# Altium footprint library SWG.PcbLib: 26 footprints (part 1 of 2)
Each footprint in its own frame and in the unit in brackets; x right, y up, seen from the top. Pads: shape width x height; smd on the part's side, far side on the other; paste and mask are expansions set on the pad; w line width, h text height; cw(c..) or ccw(c..) is an arc to the next point about the centre after c.
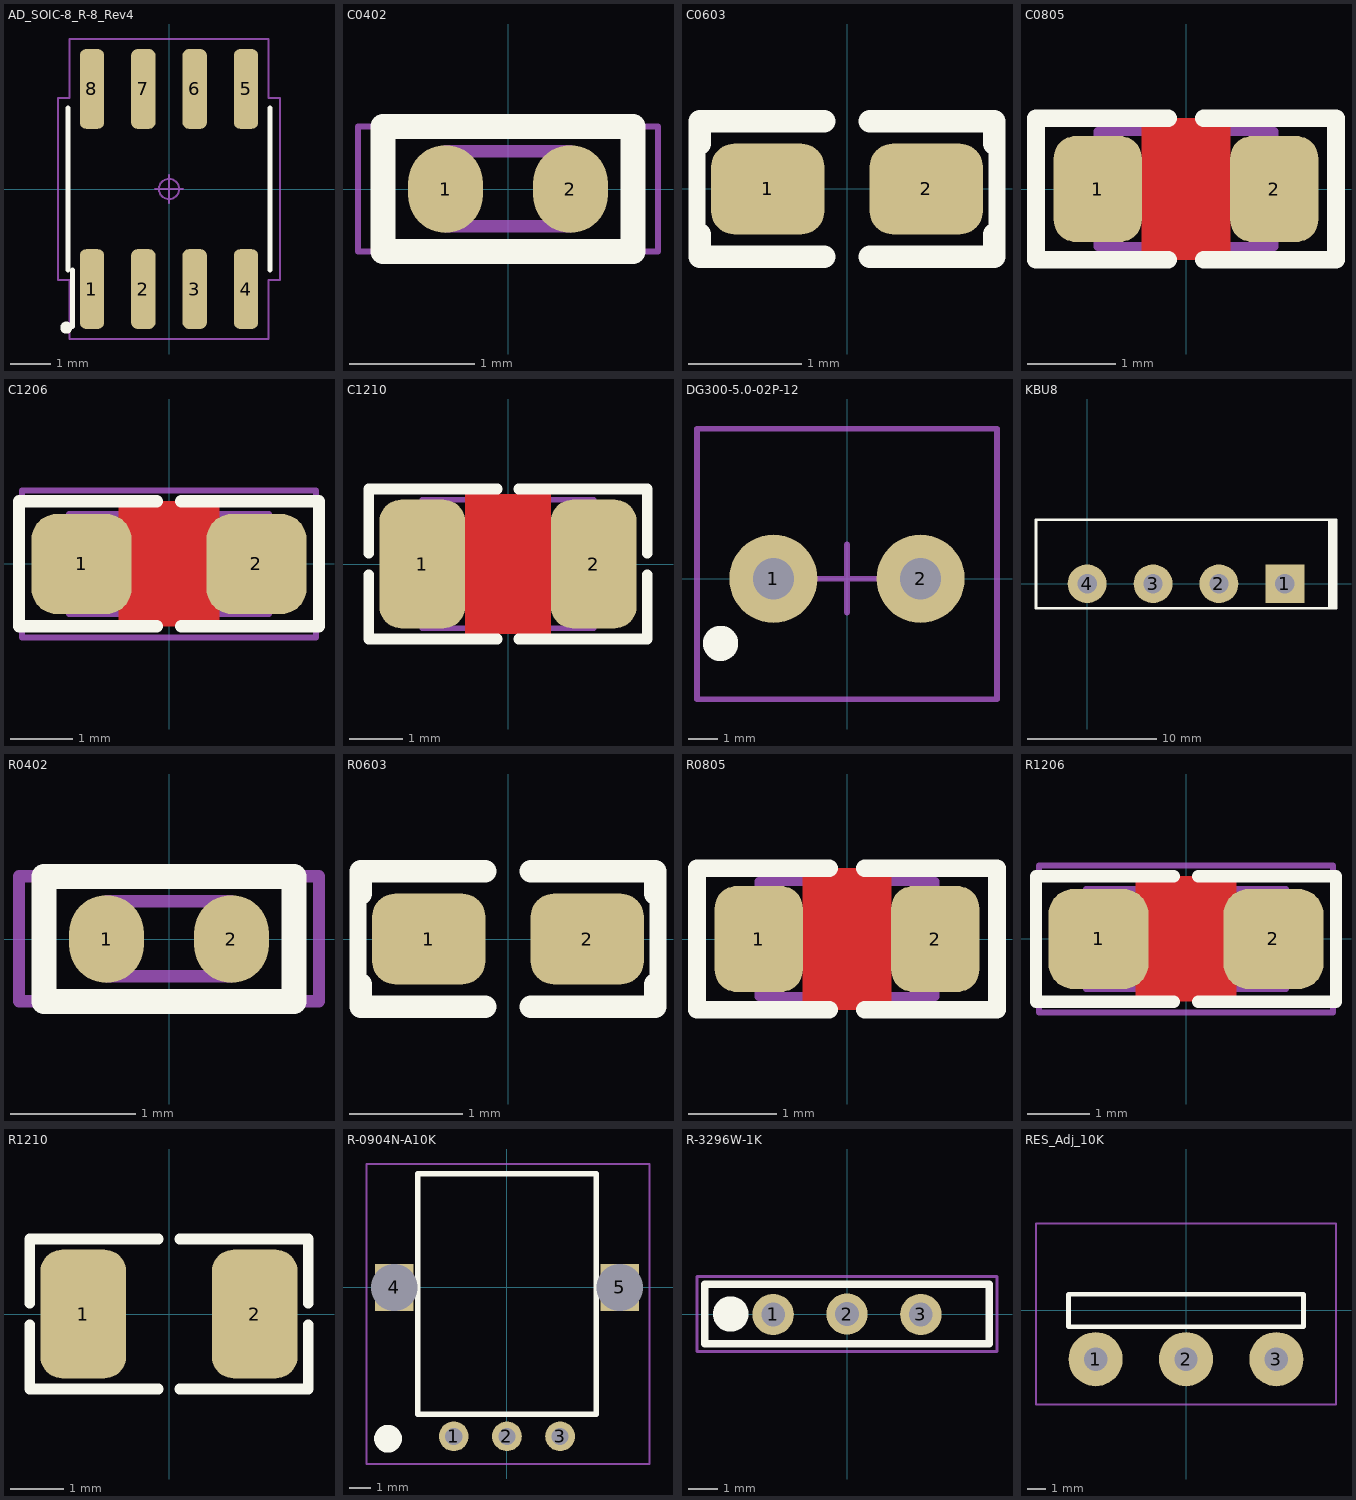
[diagram p0: the footprints below, top view; thin cyan lines are the x and y axes]

## AD_SOIC-8_R-8_Rev4 [mm] "Small Outline IC (SOIC), 1.27 mm pitch; 8 pin, 4.90 mm L X 3.90 mm W X 1.75 mm H body"
height 1.75
pads (8):
  rrect50% 0.6x1.97 smd mask+0.05: 1(-1.905,-2.475) 2(-0.635,-2.475) 3(0.635,-2.475) 4(1.905,-2.475) 5(1.905,2.475) 6(0.635,2.475) 7(-0.635,2.475) 8(-1.905,2.475)
Top Overlay:
  circle w0.15: c-2.54,-3.429 r0.075
  lines w0.12: -2.5,-2 -2.5,2 ; -2.385,-3.4 -2.385,-2 ; 2.5,-2 2.5,2
Mechanical 15:
  circle w0.05: c0,0 r0.25
  lines w0.05: -0.35,0 0.35,0 ; 0,-0.35 0,0.35 ; -2.75,-2.25 -2.75,2.25 -2.46,2.25 -2.46,3.71 2.46,3.71 2.46,2.25 2.75,2.25 2.75,-2.25 2.46,-2.25 2.46,-3.71 -2.46,-3.71 -2.46,-2.25 -2.75,-2.25
3D body "AD_SOIC_R-8_Rev4.STEP": height 1.75, standoff 0, extent -2.45,-3 2.45,3

## C0402 [mm] "CHIP Capacitor, 1.0X0.5mm, 0402"
height 0.4
pads (2):
  oval 0.6x0.7 smd mask+0.075: 1(-0.5,0) 2(0.5,0)
Top Overlay:
  lines w0.2: -1,-0.5 -1,0.5 1,0.5 1,-0.5 -1,-0.5
Mechanical 13:
  lines w0.1: -0.5,-0.3 0.5,-0.3 0.5,0.3 -0.5,0.3 -0.5,-0.3
Mechanical 15:
  lines w0.05: -1.2,-0.5 -1.2,0.5 1.2,0.5 1.2,-0.5 -1.2,-0.5
3D body "User Library-0402C.step": height 0.36, standoff 0, extent -0.5,-0.265 0.5,0.265

## C0603 [mm] "CHIP Capacitor, 1.6X0.8mm, 0603"
height 0.6
pads (2):
  rrect50% 1x0.8 smd mask+0.075: 1(-0.7,0) 2(0.7,0)
Top Overlay:
  lines w0.15: -1.325,-0.4 -1.325,0.4 ; 1.325,-0.4 1.325,0.4
  lines w0.2: -1.3,-0.4 -1.3,-0.6 -0.2,-0.6 ; -1.3,0.4 -1.3,0.6 -0.2,0.6 ; 0.2,-0.6 1.3,-0.6 1.3,-0.4 ; 0.2,0.6 1.3,0.6 1.3,0.4
3D body "User Library-CAPC1608X09.step": height 0.9, standoff 0, extent -0.8,-0.4 0.8,0.4

## C0805 [mm] "CHIP Capacitor, 2.0X1.3mm, 0805"
pads (2):
  rrect50% 1x1.2 smd mask+0.075: 1(-1,0) 2(1,0)
Top Layer:
  pour cut-out: -0.5,0.8 0.5,0.8 0.5,-0.8 -0.5,-0.8
Top Overlay:
  lines w0.2: -0.2,-0.8 -1.7,-0.8 -1.7,0.8 -0.2,0.8 ; 0.2,-0.8 1.7,-0.8 1.7,0.8 0.2,0.8
Mechanical 13:
  lines w0.1: -1,-0.65 -1,0.65 1,0.65 1,-0.65 -1,-0.65
3D body "User Library-CAPC2013X10.step": height 1, standoff 0, extent -1,-0.625 1,0.625

## C1206 [mm] "CHIP Capacitor, 3.2X1.6mm, 1206"
height 2
pads (2):
  rrect50% 1.6x1.6 smd mask+0.075: 1(-1.4,0) 2(1.4,0)
Top Layer:
  pour cut-out: -0.8,1 -0.8,-1 0.8,-1 0.8,1
Top Overlay:
  lines w0.2: -0.2,-1 -2.4,-1 -2.4,1 -0.2,1 ; 0.2,-1 2.4,-1 2.4,1 0.2,1
Mechanical 13:
  lines w0.1: -1.6,-0.8 1.6,-0.8 1.6,0.8 -1.6,0.8 -1.6,-0.8
Mechanical 15:
  lines w0.1: -0.5,0 0.5,0 ; 0,-0.5 0,0.5 ; -2.35,-1.175 2.35,-1.175 2.35,1.175 -2.35,1.175 -2.35,-1.175
3D body "User Library-CAPC3216X10.step": height 1, standoff 0, extent -1.6,-0.8 1.6,0.8

## C1210 [mm] "CHIP Capacitor, 3.2X2.5mm, 1210, 3225"
pads (2):
  rrect50% 1.6x2.4 smd mask+0.075: 1(-1.6,0) 2(1.6,0)
Top Layer:
  pour cut-out: -0.8,1.3 -0.8,-1.3 0.8,-1.3 0.8,1.3
Top Overlay:
  lines w0.2: -2.6,-0.2 -2.6,-1.4 -0.2,-1.4 ; -2.6,0.2 -2.6,1.4 -0.2,1.4 ; 0.2,-1.4 2.6,-1.4 2.6,-0.2 ; 0.2,1.4 2.6,1.4 2.6,0.2
Mechanical 13:
  lines w0.1: -1.6,-1.2 -1.6,1.2 1.6,1.2 1.6,-1.2 -1.6,-1.2
3D body "User Library-CAPC3225X10.step": height 1, standoff 0, extent -1.6,-1.25 1.6,1.25

## DG300-5.0-02P-12 [mm]
height 1
pads (2):
  round 3 hole 1.4: 1(-2.5,0) 2(2.5,0)
Top Overlay:
  circle w0.8: c-4.3,-2.2 r0.2
Mechanical 15:
  lines w0.2: -1.143,0 1.157,0 ; 0,-1.143 0,1.157 ; -5.1,-4.1 -5.1,5.1 5.1,5.1 5.1,-4.1 2.55,-4.1 -2.55,-4.1 -5.1,-4.1
3D body: height 1.24, standoff -1.24, extent -0.508,2.54 -0.508,2.54
3D body: height 1.24, standoff -1.24, extent -2.667,2.794 -2.667,2.794
3D body "User Library-DG300-5_0-02P-12.STEP": height 12.6, standoff -4.4, extent -5,-4 5,5

## KBU8 [mm] "KBU8xx diode bridge rectifier"
height 19.3
pads (4):
  rect 3x3 hole 1.5: 1(15.3,0)
  round 3 hole 1.5: 2(10.2,0) 3(5.1,0) 4(0,0)
Top Overlay:
  lines w0.2: 18.75,-1.9 18.75,4.95 ; 18.85,-1.9 18.85,4.95 ; 18.95,-1.9 18.95,4.95 ; 19.05,-1.9 19.05,4.95 ; 19.15,-1.9 19.15,4.95 ; -3.95,-1.9 -3.95,4.95 19.25,4.95 19.25,-1.9 -3.95,-1.9
3D body: height 17.3, standoff 0.1, extent -3.95,-1.9 19.25,4.95
3D body: height 3, standoff -3, extent -0.4,-0.4 0.4,0.4
3D body: height 3, standoff -3, extent 4.7,-0.4 5.5,0.4
3D body: height 3, standoff -3, extent 9.8,-0.4 10.6,0.4
3D body: height 3, standoff -3, extent 14.9,-0.4 15.7,0.4

## R0402 [mm] "CHIP Resistor 1/16 WATT, 1.0X0.5mm, 0402, 1005"
height 0.4
pads (2):
  oval 0.6x0.7 smd mask+0.075: 1(-0.5,0) 2(0.5,0)
Top Overlay:
  lines w0.2: -1,-0.5 -1,0.5 1,0.5 1,-0.5 -1,-0.5
Mechanical 11:
  lines w0.1: -0.5,-0.3 0.5,-0.3 0.5,0.3 -0.5,0.3 -0.5,-0.3
Mechanical 15:
  lines w0.1: -1.2,-0.5 1.2,-0.5 1.2,0.5 -1.2,0.5 -1.2,-0.5
3D body "User Library-RES_1005-0402.step": height 0.41, standoff 0, extent -0.575,-0.275 0.575,0.275

## R0603 [mm] "CHIP Resistor 1/10 WATT, 1.6x0.8mm, 0603, 1608"
height 0.6
pads (2):
  rrect50% 1x0.8 smd mask+0.05: 1(-0.7,0) 2(0.7,0)
Top Overlay:
  lines w0.15: -1.325,-0.4 -1.325,0.4 ; 1.325,-0.4 1.325,0.4
  lines w0.2: -1.3,-0.4 -1.3,-0.6 -0.2,-0.6 ; -1.3,0.4 -1.3,0.6 -0.2,0.6 ; 0.2,-0.6 1.3,-0.6 1.3,-0.4 ; 0.2,0.6 1.3,0.6 1.3,0.4
3D body "User Library-RES_1609-0603.step": height 0.56, standoff 0, extent -0.85,-0.4 0.85,0.4

## R0805 [mm] "CHIP RESISTOR 1/8 WATT ,2.0X1.3mm, 0805, 2012"
pads (2):
  rrect50% 1x1.2 smd mask+0.05: 1(-1,0) 2(1,0)
Top Layer:
  pour cut-out: -0.5,0.8 0.5,0.8 0.5,-0.8 -0.5,-0.8
Top Overlay:
  lines w0.2: -0.2,-0.8 -1.7,-0.8 -1.7,0.8 -0.2,0.8 ; 0.2,-0.8 1.7,-0.8 1.7,0.8 0.2,0.8
Mechanical 11:
  lines w0.1: -1,-0.65 -1,0.65 1,0.65 1,-0.65 -1,-0.65
3D body "User Library-RES_2013-0805.step": height 0.76, standoff 0, extent -1.15,-0.675 1.15,0.675

## R1206 [mm] "CHIP RESISTOR 1/4 WATT, Body 3.2x1.6mm,1206, 3216"
height 2
pads (2):
  rrect50% 1.6x1.6 smd mask+0.075: 1(-1.4,0) 2(1.4,0)
Top Layer:
  pour cut-out: -0.8,1 -0.8,-1 0.8,-1 0.8,1
Top Overlay:
  lines w0.2: -2.4,-1 -0.2,-1 ; -2.4,-1 -2.4,1 -0.2,1 ; 0.2,-1 2.4,-1 ; 0.2,1 2.4,1 2.4,-1
Mechanical 13:
  lines w0.1: -1.6,-0.8 -1.6,0.8 1.6,0.8 1.6,-0.8 -1.6,-0.8
Mechanical 15:
  lines w0.1: -0.5,0 0.5,0 ; 0,-0.5 0,0.5 ; -2.35,-1.175 -2.35,1.175 2.35,1.175 2.35,-1.175 -2.35,-1.175
3D body "User Library-RES_3216-1206.step": height 0.85, standoff 0, extent -1.675,-0.865 1.675,0.865

## R1210 [mm] "CHIP RESISTOR 1/2 WATT, Body 3.2x2.5mm,1210, 3225"
height 0.7
pads (2):
  rrect50% 1.6x2.4 smd mask+0.075: 1(-1.6,0) 2(1.6,0)
Top Overlay:
  lines w0.2: -2.6,-0.2 -2.6,-1.4 -0.2,-1.4 ; -2.6,0.2 -2.6,1.4 -0.2,1.4 ; 0.2,-1.4 2.6,-1.4 2.6,-0.2 ; 0.2,1.4 2.6,1.4 2.6,0.2
3D body "RES 1210 (3225 metric).STEP": height 0.69, standoff -0.01, extent -1.7,-1.35 1.7,1.35

## R-0904N-A10K [mm]
height 2
pads (5):
  round 1.4 hole 0.8: 1(-2.5,-7) 2(0,-7) 3(2.5,-7)
  rect 1.8x2.2 hole 2.2 square: 4(-5.3,0) 5(5.3,0)
Top Overlay:
  circle w0.7: c-5.588,-7.112 r0.3
  lines w0.254: -4.191,-5.969 4.191,-5.969 4.191,5.334 -4.191,5.334 -4.191,-5.969
Mechanical 15:
  lines w0.1: -6.6,-8.3 -6.6,5.8 6.7,5.8 6.7,-8.3 -6.6,-8.3
3D body: height 25, standoff 0, extent -6.604,-8.255 6.604,5.715

## R-3296W-1K [mm]
height 2
pads (3):
  round 1.4 hole 0.8: 1(-2.5,-0.015) 2(0,0) 3(2.5,-0.015)
Top Overlay:
  circle w0.7: c-3.937,0 r0.25
  lines w0.254: -4.826,-1.016 4.826,-1.016 4.826,1.016 -4.826,1.016 -4.826,-1.016
Mechanical 15:
  lines w0.1: -5.08,-1.27 -5.08,1.27 5.08,1.27 5.08,-1.27 -5.08,-1.27
3D body: height 12, standoff 0, extent -4.953,-1.143 4.953,1.143

## RES_Adj_10K [mm]
pads (3):
  round 3 hole 1.3: 1(-5,-2.7) 2(0,-2.7) 3(5,-2.7)
Top Overlay:
  lines w0.254: -6.5,-0.9 6.5,-0.9 6.5,0.9 -6.5,0.9 -6.5,-0.9
Mechanical 15:
  lines w0.1: -8.3,-5.2 8.3,-5.2 8.3,4.8 -8.3,4.8 -8.3,-5.2
3D body: height 22.2, standoff 0, extent 4.572,-1.397 4.572,-1.397
3D body: height 21.1, standoff 0, extent -8.1,-5 8.1,10.6